# EAGLE library part TDA8568Q (library Audio-Power-amplifier)
Philips 4 x 25 W BTL quad car radio power amplifier http://www.datasheetcatalog.com/datasheets_pdf/T/D/A/8/TDA8568Q.shtml
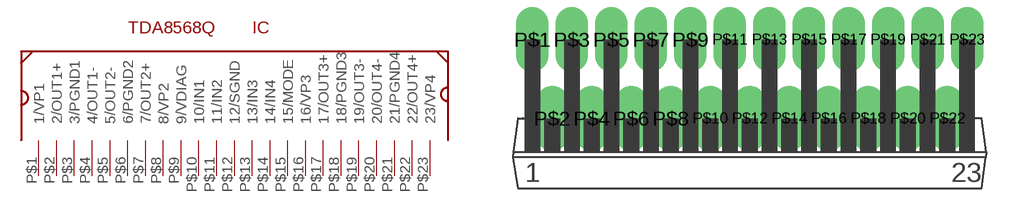
[diagram p55: symbol with the pads of SOT411-1; footprint SOT411-1]

Designator prefix IC

## TDA8568Q  [SOT411-1]
P$1  1/VP1  pwr
P$2  2/OUT1+  out
P$3  3/PGND1  pwr
P$4  4/OUT1-  out
P$5  5/OUT2-  out
P$6  6/PGND2  pwr
P$7  7/OUT2+  out
P$8  8/VP2  pwr
P$9  9/VDIAG
P$10  10/IN1  in
P$11  11/IN2  in
P$12  12/SGND  pwr
P$13  13/IN3  in
P$14  14/IN4  in
P$15  15/MODE
P$16  16/VP3  pwr
P$17  17/OUT3+  out
P$18  18/PGND3  pwr
P$19  19/OUT3-  out
P$20  20/OUT4-  out
P$21  21/PGND4  pwr
P$22  22/OUT4+  out
P$23  23/VP4  pwr

## Footprint SOT411-1 (pad centres in mm)
drill 1.4 long: P$1 -13.97,5.08; P$2 -12.7,0; P$3 -11.43,5.08; P$4 -10.16,0; P$5 -8.89,5.08; P$6 -7.62,0; P$7 -6.35,5.08; P$8 -5.08,0; P$9 -3.81,5.08; P$10 -2.54,0; P$11 -1.27,5.08; P$12 0,0; P$13 1.27,5.08; P$14 2.54,0; P$15 3.81,5.08; P$16 5.08,0; P$17 6.35,5.08; P$18 7.62,0; P$19 8.89,5.08; P$20 10.16,0; P$21 11.43,5.08; P$22 12.7,0; P$23 13.97,5.08